# Altium footprint library ar488_driver_pcb_library.PcbLib: 5 footprints
Each footprint in its own frame and in the unit in brackets; x right, y up, seen from the top. Pads: shape width x height; smd on the part's side, far side on the other; paste and mask are expansions set on the pad; w line width, h text height; cw(c..) or ccw(c..) is an arc to the next point about the centre after c.
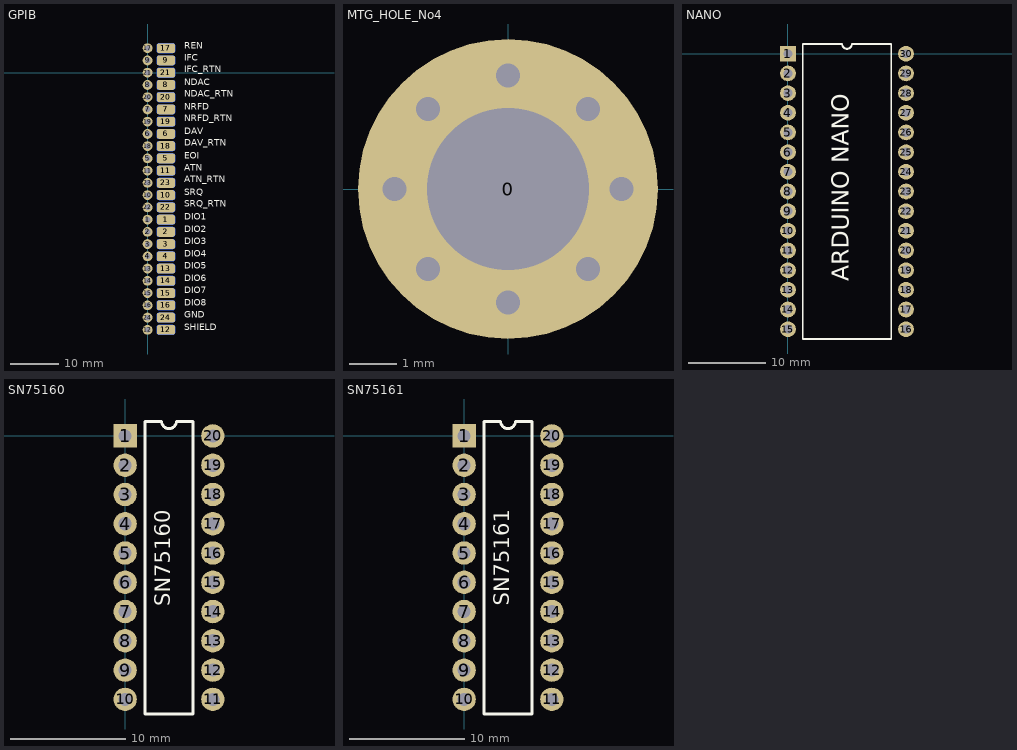
[diagram p0: the footprints below, top view; thin cyan lines are the x and y axes]

## GPIB [mil]
pads (72):
  round 80 hole 45 paste-100: 1(0,-1200) 2(0,-1300) 3(0,-1400) 4(0,-1500) 5(0,-700) 6(0,-500) 7(0,-300) 8(0,-100) 9(0,100) 10(0,-1000) 11(0,-800) 12(0,-2100) 13(0,-1600) 14(0,-1700) 15(0,-1800) 16(0,-1900) 17(0,200) 18(0,-600) 19(0,-400) 20(0,-200) 21(0,0) 22(0,-1100) 23(0,-900) 24(0,-2000)
  rrect50% 150x80 smd far side paste-100: 1(150,-1200) 2(150,-1300) 3(150,-1400) 4(150,-1500) 5(150,-700) 6(150,-500) 7(150,-300) 8(150,-100) 9(150,100) 10(150,-1000) 11(150,-800) 12(150,-2100) 13(150,-1600) 14(150,-1700) 15(150,-1800) 16(150,-1900) 17(150,200) 18(150,-600) 19(150,-400) 20(150,-200) 21(150,0) 22(150,-1100) 23(150,-900) 24(150,-2000)
  rrect50% 150x80 smd paste-100: 1(150,-1200) 2(150,-1300) 3(150,-1400) 4(150,-1500) 5(150,-700) 6(150,-500) 7(150,-300) 8(150,-100) 9(150,100) 10(150,-1000) 11(150,-800) 12(150,-2100) 13(150,-1600) 14(150,-1700) 15(150,-1800) 16(150,-1900) 17(150,200) 18(150,-600) 19(150,-400) 20(150,-200) 21(150,0) 22(150,-1100) 23(150,-900) 24(150,-2000)
Top Overlay:
  text "DIO1" at 300,-1223.28 h90
  text "DIO2" at 300,-1323.28 h90
  text "DIO3" at 300,-1423.28 h90
  text "DIO4" at 300,-1523.28 h90
  text "EOI" at 300,-723.28 h90
  text "DAV" at 300,-523.28 h90
  text "NRFD" at 300,-323.2 h90
  text "NDAC" at 300,-123.28 h90
  text "IFC" at 300,76.72 h90
  text "SRQ" at 300,-1020.2 h90
  text "ATN" at 300,-823.28 h90
  text "SHIELD" at 300,-2123.28 h90
  text "DIO5" at 300,-1623.28 h90
  text "DIO6" at 300,-1723.28 h90
  text "DIO7" at 300,-1823.28 h90
  text "DIO8" at 300,-1923.28 h90
  text "REN" at 300,176.8 h90
  text "DAV_RTN" at 300,-616.83 h90
  text "NRFD_RTN" at 300,-416.74 h90
  text "NDAC_RTN" at 300,-216.99 h90
  text "IFC_RTN" at 300,-16.99 h90
  text "SRQ_RTN" at 300,-1117.03 h90
  text "ATN_RTN" at 300,-916.83 h90
  text "GND" at 300,-2023.28 h90
Bottom Overlay:
  text "DAV" at 422.28,-523.28 h90
  text "DIO1" at 439.94,-1223.28 h90
  text "DIO2" at 439.78,-1323.28 h90
  text "DIO3" at 439.44,-1423.28 h90
  text "DIO4" at 441.78,-1523.28 h90
  text "NRFD" at 457.35,-323.2 h90
  text "NDAC" at 466.68,-123.28 h90
  text "IFC" at 383.63,76.72 h90
  text "SRQ" at 422.37,-1020.2 h90
  text "ATN" at 418.7,-823.28 h90
  text "DAV_RTN" at 577.72,-616.83 h90
  text "NRFD_RTN" at 614.79,-416.74 h90
  text "NDAC_RTN" at 622.79,-216.99 h90
  text "IFC_RTN" at 539.74,-16.99 h90
  text "SRQ_RTN" at 575.06,-1117.03 h90
  text "ATN_RTN" at 578.97,-916.83 h90
  text "EOI" at 390.96,-723.28 h90
  text "SHIELD" at 504.75,-2123.28 h90
  text "DIO5" at 439.61,-1623.28 h90
  text "DIO6" at 440.94,-1723.28 h90
  text "DIO7" at 440.53,-1823.28 h90
  text "DIO8" at 440.86,-1923.28 h90
  text "REN" at 411.29,176.8 h90
  text "GND" at 432.78,-2023.28 h90

## MTG_HOLE_No4 [mil]
pads (1):
  round 250 hole 135: 0(0,0)
via -66.82,66.82 diameter 44 hole 20
via -94.5,0 diameter 44 hole 20
via -66.82,-66.82 diameter 44 hole 20
via 0,-94.5 diameter 44 hole 20
via 66.82,-66.82 diameter 44 hole 20
via 94.5,0 diameter 44 hole 20
via 66.82,66.82 diameter 44 hole 20
via 0,94.5 diameter 44 hole 20

## NANO [mil]
pads (30):
  rect 80x80 hole 45: 1(0,0)
  round 80 hole 45: 2(0,-100) 3(0,-200) 4(0,-300) 5(0,-400) 6(0,-500) 7(0,-600) 8(0,-700) 9(0,-800) 10(0,-900) 11(0,-1000) 12(0,-1100) 13(0,-1200) 14(0,-1300) 15(0,-1400) 16(600,-1400) 17(600,-1300) 18(600,-1200) 19(600,-1100) 20(600,-1000) 21(600,-900) 22(600,-800) 23(600,-700) 24(600,-600) 25(600,-500) 26(600,-400) 27(600,-300) 28(600,-200) 29(600,-100) 30(600,0)
Top Overlay:
  lines w10: 75,-1450 75,50 275,50 ccw(c300,50) 325,50 525,50 525,-1450 75,-1450
  text "ARDUINO NANO" at 338.79,-1157.17 h150

## SN75160 [mil]
pads (20):
  rect 80x80 hole 45: 1(0,0)
  round 80 hole 45: 2(0,-100) 3(0,-200) 4(0,-300) 5(0,-400) 6(0,-500) 7(0,-600) 8(0,-700) 9(0,-800) 10(0,-900) 11(300,-900) 12(300,-800) 13(300,-700) 14(300,-600) 15(300,-500) 16(300,-400) 17(300,-300) 18(300,-200) 19(300,-100) 20(300,0)
Top Overlay:
  lines w10: 67.5,-950 232.5,-950 232.5,50 175,50 cw(c150,50) 125,50 67.5,50 67.5,-950
  text "SN75160" at 173.28,-581.65 h90

## SN75161 [mil]
pads (20):
  rect 80x80 hole 45: 1(0,0)
  round 80 hole 45: 2(0,-100) 3(0,-200) 4(0,-300) 5(0,-400) 6(0,-500) 7(0,-600) 8(0,-700) 9(0,-800) 10(0,-900) 11(300,-900) 12(300,-800) 13(300,-700) 14(300,-600) 15(300,-500) 16(300,-400) 17(300,-300) 18(300,-200) 19(300,-100) 20(300,0)
Top Overlay:
  lines w10: 67.5,-950 232.5,-950 232.5,50 175,50 cw(c150,50) 125,50 67.5,50 67.5,-950
  text "SN75161" at 173.28,-580.95 h90